# EAGLE library part WANDBOARD (library BaseApp)
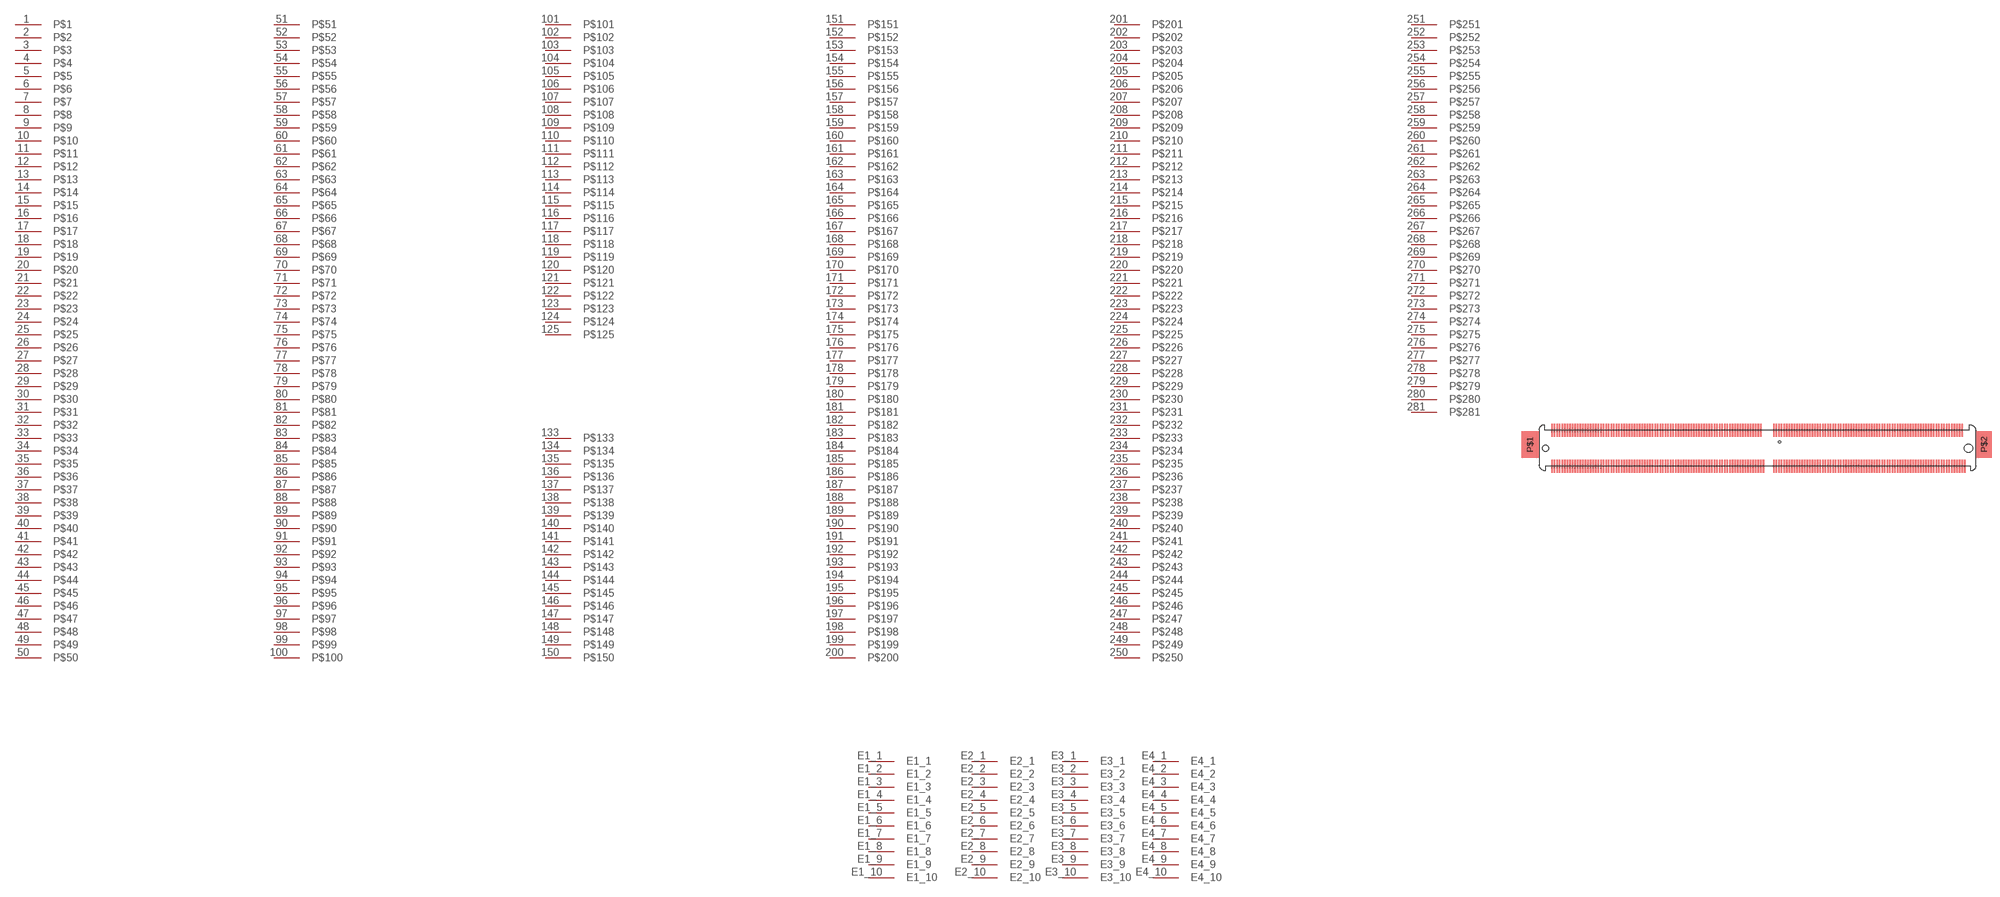
[diagram p131: symbol with the pads of MXM_3_; footprint MXM_3_]

Designator prefix -

## WANDBOARD  [MXM_3_]
1  P$1
2  P$2
3  P$3
4  P$4
5  P$5
6  P$6
7  P$7
8  P$8
9  P$9
10  P$10
11  P$11
12  P$12
13  P$13
14  P$14
15  P$15
16  P$16
17  P$17
18  P$18
19  P$19
20  P$20
21  P$21
22  P$22
23  P$23
24  P$24
25  P$25
26  P$26
27  P$27
28  P$28
29  P$29
30  P$30
31  P$31
32  P$32
33  P$33
34  P$34
35  P$35
36  P$36
37  P$37
38  P$38
39  P$39
40  P$40
41  P$41
42  P$42
43  P$43
44  P$44
45  P$45
46  P$46
47  P$47
48  P$48
49  P$49
50  P$50
51  P$51
52  P$52
53  P$53
54  P$54
55  P$55
56  P$56
57  P$57
58  P$58
59  P$59
60  P$60
61  P$61
62  P$62
63  P$63
64  P$64
65  P$65
66  P$66
67  P$67
68  P$68
69  P$69
70  P$70
71  P$71
72  P$72
73  P$73
74  P$74
75  P$75
76  P$76
77  P$77
78  P$78
79  P$79
80  P$80
81  P$81
82  P$82
83  P$83
84  P$84
85  P$85
86  P$86
87  P$87
88  P$88
89  P$89
90  P$90
91  P$91
92  P$92
93  P$93
94  P$94
95  P$95
96  P$96
97  P$97
98  P$98
99  P$99
100  P$100
101  P$101
102  P$102
103  P$103
104  P$104
105  P$105
106  P$106
107  P$107
108  P$108
109  P$109
110  P$110
111  P$111
112  P$112
113  P$113
114  P$114
115  P$115
116  P$116
117  P$117
118  P$118
119  P$119
120  P$120
121  P$121
122  P$122
123  P$123
124  P$124
125  P$125
133  P$133
134  P$134
135  P$135
136  P$136
137  P$137
138  P$138
139  P$139
140  P$140
141  P$141
142  P$142
143  P$143
144  P$144
145  P$145
146  P$146
147  P$147
148  P$148
149  P$149
150  P$150
151  P$151
152  P$152
153  P$153
154  P$154
155  P$155
156  P$156
157  P$157
158  P$158
159  P$159
160  P$160
161  P$161
162  P$162
163  P$163
164  P$164
165  P$165
166  P$166
167  P$167
168  P$168
169  P$169
170  P$170
171  P$171
172  P$172
173  P$173
174  P$174
175  P$175
176  P$176
177  P$177
178  P$178
179  P$179
180  P$180
181  P$181
182  P$182
183  P$183
184  P$184
185  P$185
186  P$186
187  P$187
188  P$188
189  P$189
190  P$190
191  P$191
192  P$192
193  P$193
194  P$194
195  P$195
196  P$196
197  P$197
198  P$198
199  P$199
200  P$200
201  P$201
202  P$202
203  P$203
204  P$204
205  P$205
206  P$206
207  P$207
208  P$208
209  P$209
210  P$210
211  P$211
212  P$212
213  P$213
214  P$214
215  P$215
216  P$216
217  P$217
218  P$218
219  P$219
220  P$220
221  P$221
222  P$222
223  P$223
224  P$224
225  P$225
226  P$226
227  P$227
228  P$228
229  P$229
230  P$230
231  P$231
232  P$232
233  P$233
234  P$234
235  P$235
236  P$236
237  P$237
238  P$238
239  P$239
240  P$240
241  P$241
242  P$242
243  P$243
244  P$244
245  P$245
246  P$246
247  P$247
248  P$248
249  P$249
250  P$250
251  P$251
252  P$252
253  P$253
254  P$254
255  P$255
256  P$256
257  P$257
258  P$258
259  P$259
260  P$260
261  P$261
262  P$262
263  P$263
264  P$264
265  P$265
266  P$266
267  P$267
268  P$268
269  P$269
270  P$270
271  P$271
272  P$272
273  P$273
274  P$274
275  P$275
276  P$276
277  P$277
278  P$278
279  P$279
280  P$280
281  P$281
E1_1  E1_1
E1_2  E1_2
E1_3  E1_3
E1_4  E1_4
E1_5  E1_5
E1_6  E1_6
E1_7  E1_7
E1_8  E1_8
E1_9  E1_9
E1_10  E1_10
E2_1  E2_1
E2_2  E2_2
E2_3  E2_3
E2_4  E2_4
E2_5  E2_5
E2_6  E2_6
E2_7  E2_7
E2_8  E2_8
E2_9  E2_9
E2_10  E2_10
E3_1  E3_1
E3_2  E3_2
E3_3  E3_3
E3_4  E3_4
E3_5  E3_5
E3_6  E3_6
E3_7  E3_7
E3_8  E3_8
E3_9  E3_9
E3_10  E3_10
E4_1  E4_1
E4_2  E4_2
E4_3  E4_3
E4_4  E4_4
E4_5  E4_5
E4_6  E4_6
E4_7  E4_7
E4_8  E4_8
E4_9  E4_9
E4_10  E4_10

## Footprint MXM_3_ (pad centres in mm)
smd 0.3 x 2.5: 1 -29.75,-3.5; 2 -29.75,3.5; 3 -29.25,-3.5; 4 -29.25,3.5; 5 -28.75,-3.5; 6 -28.75,3.5; 7 -28.25,-3.5; 8 -28.25,3.5; 9 -27.75,-3.5; 10 -27.75,3.5; 11 -27.25,-3.5; 12 -27.25,3.5; 13 -26.75,-3.5; 14 -26.75,3.5; 15 -26.25,-3.5; 16 -26.25,3.5; 17 -25.75,-3.5; 18 -25.75,3.5; 19 -25.25,-3.5; 20 -25.25,3.5; 21 -24.75,-3.5; 22 -24.75,3.5; 23 -24.25,-3.5; 24 -24.25,3.5; 25 -23.75,-3.5; 26 -23.75,3.5; 27 -23.25,-3.5; 28 -23.25,3.5; 29 -22.75,-3.5; 30 -22.75,3.5; 31 -22.25,-3.5; 32 -22.25,3.5; 33 -21.75,-3.5; 34 -21.75,3.5; 35 -21.25,-3.5; 36 -21.25,3.5; 37 -20.75,-3.5; 38 -20.75,3.5; 39 -20.25,-3.5; 40 -20.25,3.5; 41 -19.75,-3.5; 42 -19.75,3.5; 43 -19.25,-3.5; 44 -19.25,3.5; 45 -18.75,-3.5; 46 -18.75,3.5; 47 -18.25,-3.5; 48 -18.25,3.5; 49 -17.75,-3.5; 50 -17.75,3.5; 51 -17.25,-3.5; 52 -17.25,3.5; 53 -16.75,-3.5; 54 -16.75,3.5; 55 -16.25,-3.5; 56 -16.25,3.5; 57 -15.75,-3.5; 58 -15.75,3.5; 59 -15.25,-3.5; 60 -15.25,3.5; 61 -14.75,-3.5; 62 -14.75,3.5; 63 -14.25,-3.5; 64 -14.25,3.5; 65 -13.75,-3.5; 66 -13.75,3.5; 67 -13.25,-3.5; 68 -13.25,3.5; 69 -12.75,-3.5; 70 -12.75,3.5; 71 -12.25,-3.5; 72 -12.25,3.5; 73 -11.75,-3.5; 74 -11.75,3.5; 75 -11.25,-3.5; 76 -11.25,3.5; 77 -10.75,-3.5; 78 -10.75,3.5; 79 -10.25,-3.5; 80 -10.25,3.5; 81 -9.75,-3.5; 82 -9.75,3.5; 83 -9.25,-3.5; 84 -9.25,3.5; 85 -8.75,-3.5; 86 -8.75,3.5; 87 -8.25,-3.5; 88 -8.25,3.5; 89 -7.75,-3.5; 90 -7.75,3.5; 91 -7.25,-3.5; 92 -7.25,3.5; 93 -6.75,-3.5; 94 -6.75,3.5; 95 -6.25,-3.5; 96 -6.25,3.5; 97 -5.75,-3.5; 98 -5.75,3.5; 99 -5.25,-3.5; 100 -5.25,3.5; 101 -4.75,-3.5; 102 -4.75,3.5; 103 -4.25,-3.5; 104 -4.25,3.5; 105 -3.75,-3.5; 106 -3.75,3.5; 107 -3.25,-3.5; 108 -3.25,3.5; 109 -2.75,-3.5; 110 -2.75,3.5; 111 -2.25,-3.5; 112 -2.25,3.5; 113 -1.75,-3.5; 114 -1.75,3.5; 115 -1.25,-3.5; 116 -1.25,3.5; 117 -0.75,-3.5; 118 -0.75,3.5; 119 -0.25,-3.5; 120 -0.25,3.5; 121 0.25,-3.5; 122 0.25,3.5; 123 0.75,-3.5; 124 0.75,3.5; 125 1.25,-3.5; 133 3.25,-3.5; 134 3.25,3.5; 135 3.75,-3.5; 136 3.75,3.5; 137 4.25,-3.5; 138 4.25,3.5; 139 4.75,-3.5; 140 4.75,3.5; 141 5.25,-3.5; 142 5.25,3.5; 143 5.75,-3.5; 144 5.75,3.5; 145 6.25,-3.5; 146 6.25,3.5; 147 6.75,-3.5; 148 6.75,3.5; 149 7.25,-3.5; 150 7.25,3.5; 151 7.75,-3.5; 152 7.75,3.5; 153 8.25,-3.5; 154 8.25,3.5; 155 8.75,-3.5; 156 8.75,3.5; 157 9.25,-3.5; 158 9.25,3.5; 159 9.75,-3.5; 160 9.75,3.5; 161 10.25,-3.5; 162 10.25,3.5; 163 10.75,-3.5; 164 10.75,3.5; 165 11.25,-3.5; 166 11.25,3.5; 167 11.75,-3.5; 168 11.75,3.5; 169 12.25,-3.5; 170 12.25,3.5; 171 12.75,-3.5; 172 12.75,3.5; 173 13.25,-3.5; 174 13.25,3.5; 175 13.75,-3.5; 176 13.75,3.5; 177 14.25,-3.5; 178 14.25,3.5; 179 14.75,-3.5; 180 14.75,3.5; 181 15.25,-3.5; 182 15.25,3.5; 183 15.75,-3.5; 184 15.75,3.5; 185 16.25,-3.5; 186 16.25,3.5; 187 16.75,-3.5; 188 16.75,3.5; 189 17.25,-3.5; 190 17.25,3.5; 191 17.75,-3.5; 192 17.75,3.5; 193 18.25,-3.5; 194 18.25,3.5; 195 18.75,-3.5; 196 18.75,3.5; 197 19.25,-3.5; 198 19.25,3.5; 199 19.75,-3.5; 200 19.75,3.5; 201 20.25,-3.5; 202 20.25,3.5; 203 20.75,-3.5; 204 20.75,3.5; 205 21.25,-3.5; 206 21.25,3.5; 207 21.75,-3.5; 208 21.75,3.5; 209 22.25,-3.5; 210 22.25,3.5; 211 22.75,-3.5; 212 22.75,3.5; 213 23.25,-3.5; 214 23.25,3.5; 215 23.75,-3.5; 216 23.75,3.5; 217 24.25,-3.5; 218 24.25,3.5; 219 24.75,-3.5; 220 24.75,3.5; 221 25.25,-3.5; 222 25.25,3.5; 223 25.75,-3.5; 224 25.75,3.5; 225 26.25,-3.5; 226 26.25,3.5; 227 26.75,-3.5; 228 26.75,3.5; 229 27.25,-3.5; 230 27.25,3.5; 231 27.75,-3.5; 232 27.75,3.5; 233 28.25,-3.5; 234 28.25,3.5; 235 28.75,-3.5; 236 28.75,3.5; 237 29.25,-3.5; 238 29.25,3.5; 239 29.75,-3.5; 240 29.75,3.5; 241 30.25,-3.5; 242 30.25,3.5; 243 30.75,-3.5; 244 30.75,3.5; 245 31.25,-3.5; 246 31.25,3.5; 247 31.75,-3.5; 248 31.75,3.5; 249 32.25,-3.5; 250 32.25,3.5; 251 32.75,-3.5; 252 32.75,3.5; 253 33.25,-3.5; 254 33.25,3.5; 255 33.75,-3.5; 256 33.75,3.5; 257 34.25,-3.5; 258 34.25,3.5; 259 34.75,-3.5; 260 34.75,3.5; 261 35.25,-3.5; 262 35.25,3.5; 263 35.75,-3.5; 264 35.75,3.5; 265 36.25,-3.5; 266 36.25,3.5; 267 36.75,-3.5; 268 36.75,3.5; 269 37.25,-3.5; 270 37.25,3.5; 271 37.75,-3.5; 272 37.75,3.5; 273 38.25,-3.5; 274 38.25,3.5; 275 38.75,-3.5; 276 38.75,3.5; 277 39.25,-3.5; 278 39.25,3.5; 279 39.75,-3.5; 280 39.75,3.5; 281 40.25,-3.5; E1_1 -39.75,-3.5; E1_2 -39.25,-3.5; E1_3 -38.75,-3.5; E1_4 -38.25,-3.5; E1_5 -37.75,-3.5; E1_6 -37.25,-3.5; E1_7 -36.75,-3.5; E1_8 -36.25,-3.5; E1_9 -35.75,-3.5; E1_10 -35.25,-3.5; E2_1 -39.75,3.5; E2_2 -39.25,3.5; E2_3 -38.75,3.5; E2_4 -38.25,3.5; E2_5 -37.75,3.5; E2_6 -37.25,3.5; E2_7 -36.75,3.5; E2_8 -36.25,3.5; E2_9 -35.75,3.5; E2_10 -35.25,3.5; E3_1 -34.75,-3.5; E3_2 -34.25,-3.5; E3_3 -33.75,-3.5; E3_4 -33.25,-3.5; E3_5 -32.75,-3.5; E3_6 -32.25,-3.5; E3_7 -31.75,-3.5; E3_8 -31.25,-3.5; E3_9 -30.75,-3.5; E3_10 -30.25,-3.5; E4_1 -34.75,3.5; E4_2 -34.25,3.5; E4_3 -33.75,3.5; E4_4 -33.25,3.5; E4_5 -32.75,3.5; E4_6 -32.25,3.5; E4_7 -31.75,3.5; E4_8 -31.25,3.5; E4_9 -30.75,3.5; E4_10 -30.25,3.5
smd 3.3 x 5.2: P$1 -44,0.75
smd 3 x 5.2: P$2 44,0.75
hole 1.1 at -41,0
hole 1.6 at 41,0
hole 0.4 at 4.375,1.25